# Altium schematic symbol library 0603X475K160CT.SchLib: 1 symbol
Pins are listed as number, name and electrical type; pins without a type are passive.

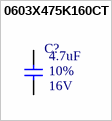
[diagram p0: symbol 0603X475K160CT]

## 0603X475K160CT
designator C?  Rated Voltage: 16V  Tolerance: 10%  Capacitence: 4.7uF  (hidden comment: 0603X475K160CT)
Multilayer Ceramic Capacitors MLCC - SMD/SMT 0603 MLCC X5R 4.7 uF +/- 10% 16 V T&R GP; MFR: Walsin; PN: 0603X475K160CT; ComponentLink1Description: Datasheet; ComponentLink1URL: www.google.com; Temperature Coefficient: X5R; Package: 0603; Footprint: C0603; Supplier 1: Mouser; Supplier Part Number 1: 791-0603X475K160CT
footprint C0603 (Generic C0603 Footprint)
pins: 1, 2